# Altium footprint library TRIM_3266W-1-103LF.PcbLib: 1 footprints
Each footprint in its own frame and in the unit in brackets; x right, y up, seen from the top. Pads: shape width x height; smd on the part's side, far side on the other; paste and mask are expansions set on the pad; w line width, h text height; cw(c..) or ccw(c..) is an arc to the next point about the centre after c.
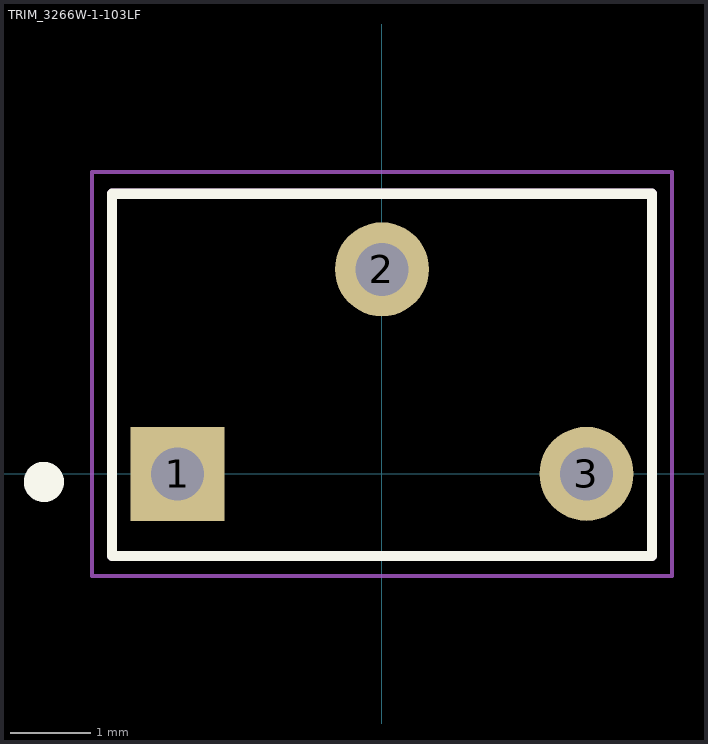
[diagram p0: the footprint, top view; thin cyan lines are the x and y axes]

## TRIM_3266W-1-103LF [mm]
pads (3):
  rect 1.168x1.168 hole 0.66: 1(-2.54,0)
  round 1.168 hole 0.66: 2(0,2.54) 3(2.54,0)
Top Overlay:
  circle w0.3: c-4.2,-0.1 r0.1
  lines w0.127: -3.355,-1.02 3.355,-1.02 3.355,3.48 -3.355,3.48 -3.355,-1.02
Mechanical 13:
  lines w0.127: -3.355,-1.02 -3.355,3.48 3.355,3.48 3.355,-1.02 -3.355,-1.02
Mechanical 15:
  lines w0.05: -3.605,-1.27 -3.605,3.75 3.605,3.75 3.605,-1.27 -3.605,-1.27
3D body "step_temp.STEP": height 9.72, standoff -4.42, extent -3.355,-0.98 3.355,3.52